# Altium integrated library Analog Devices Data Converters Analog-to-Digital Converters.IntLib: 2404 symbols (part 260 of 346)
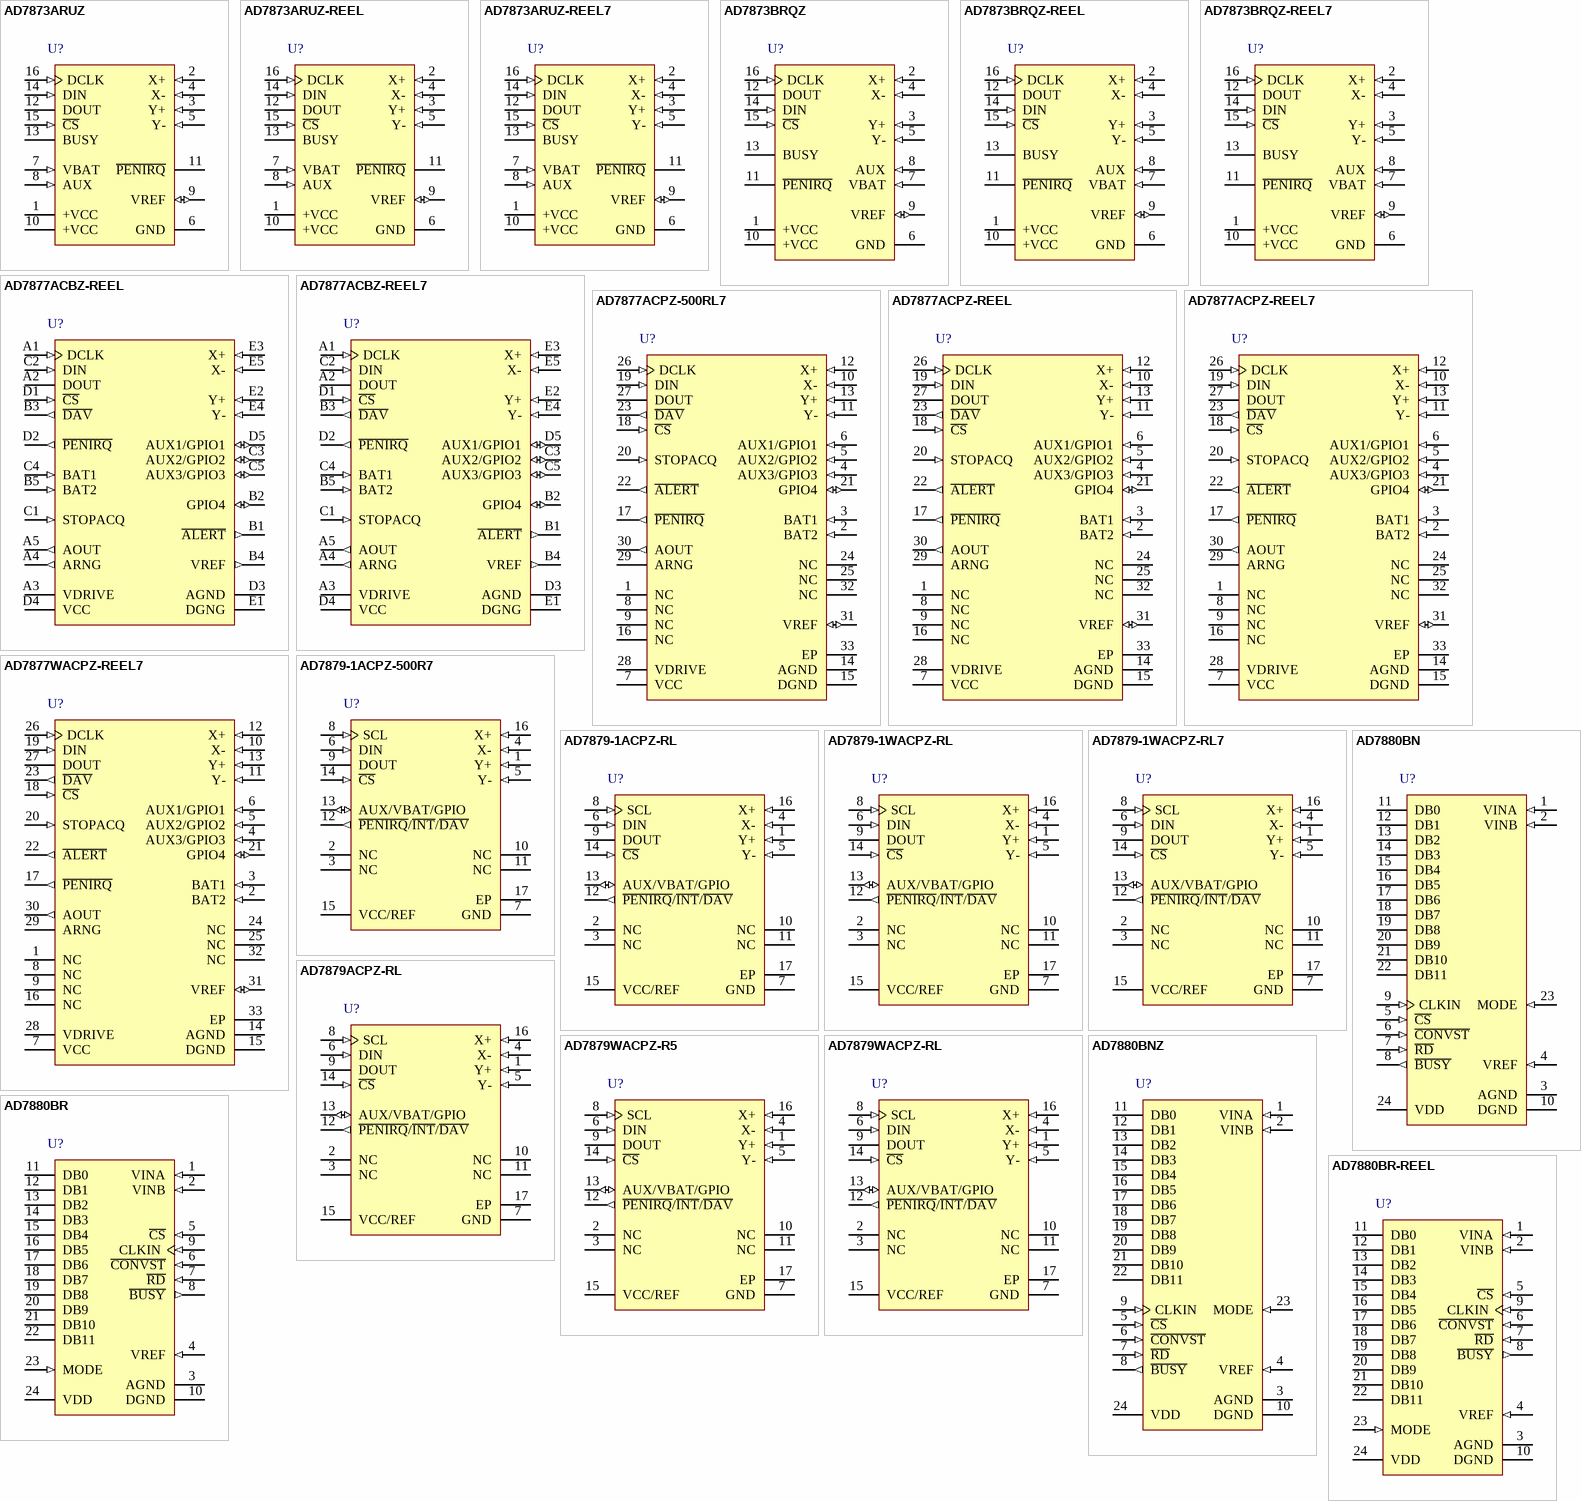
[diagram p293: symbols AD7873ARUZ to AD7880BR-REEL]

## AD7873BRQZ-REEL
designator U?
6 Channel Touch Screen Digitizer with Serial Interface, 125KSPS, -40 to +85 degC, RQ-16, Pb-Free, Reel; Generic Part Number: AD7873; Manufacturer: Analog Devices; PartNumber: AD7873BRQZ-REEL; Resolution (Bits): 12; Channels: 6; Throughput Rate (SPS): 125K; Interface: Ser; DatasheetVersion: Rev.E; PackageVersion: Aug-2005; PackageReference: RQ-16; PackageDescription: 16-Lead Shrink Small Outline Package [QSOP]; Supplier 1: Digi-Key; Supplier Part Number 1: AD7873BRQZ-REEL-ND; Supplier 2: Mouser; Supplier Part Number 2: 584-AD7873BRQZ-R; RoHS: Y; Packing: Reel; Mounting Technology: Surface Mount; Code_JEDEC: MO-137-AB; ComponentLink1Description: Manufacturer URL; ComponentLink1URL: http://www.analog.com/en/index.html; ComponentLink2Description: Datasheet; ComponentLink2URL: http://www.analog.com/static/imported-files/data_sheets/AD7873.pdf; ComponentLink3Description: Package Specification; ComponentLink3URL: http://www.analog.com/static/imported-files/packages/5595549651201762937RQ_16.pdf; ComponentLink4Description: Product URL; ComponentLink4URL: http://www.analog.com/en/analog-to-digital-converters/ad-converters/ad7873/products/product.html
footprint RQ-16_N (SOP, 16-Leads, Body 4.9x3.9mm, Pitch 0.635mm, IPC Medium Density)
footprint RQ-16_L (SOP, 16-Leads, Body 4.9x3.9mm, Pitch 0.635mm, IPC High Density)
footprint RQ-16_M (SOP, 16-Leads, Body 4.9x3.9mm, Pitch 0.635mm, IPC Low Density)
pins: 1 +VCC (power) "Power Supply Input. The +VCC range for the AD7873 is from 2.2 V to 5.25 V. Both +VCC pins should be connected directly together", 2 X+ (in) "X+ Position Input. ADC Input Channel 1.", 3 Y+ (in) "Y+ Position Input. ADC Input Channel 2.", 4 X- (in) "X- Position Input.", 5 Y- (in) "Y- Position Input. ADC Input Channel 3.", 6 GND (power) "Analog Ground. Ground reference point for all circuitry on the AD7873. All analog input signals and any external reference signals should be referred to this GND voltage.", 7 VBAT (in) "Battery Monitor Input. ADC Input Channel 4", 8 AUX (in) "Auxiliary Input. ADC Input Channel 5.", 9 VREF (io) "Reference Output for the AD7873. Alternatively, an external reference can be applied to this input.The voltage range for the external reference is 1.0 V to +VCC. For specified performance, it is 2.5 V on the AD7873. The (See Datasheet)", 10 +VCC (power) "Power Supply Input. The +VCC range for the AD7873 is from 2.2 V to 5.25 V. Both +VCC pins should be connected directly together", 11 ~{PENIRQ} (oc) "Pen Interrupt. CMOS logic open-drain output (requires 10 kO to 100 kO pull-up resistor externally).", 12 DOUT (hiz) "Data Out. Logic output. The conversion result from the AD7873 is provided on this output as a serial data stream. The bits are clocked out on the falling edge of the DCLK input. This output is high impedance when C\S\ is (See Datasheet)", 13 BUSY (hiz) "BUSY Output. Logic output. This output is high impedance when C\S\ is high", 14 DIN (in) "Data In. Logic Input. Data to be written to the AD7873 control register is provided on this input and is clocked into the register on the rising edge of DCLK (see the Control Register section).", 15 ~{CS} (in) "Chip Select Input. Active low logic input. This input provides the dual function of initiating conversions on the AD7873 and enabling the serial input/output register.", 16 DCLK (in) "External Clock Input. Logic input. DCLK provides the serial clock for accessing data from the part.This clock input is also used as the clock source for the AD7873 conversion process."

## AD7873BRQZ-REEL7
designator U?
6 Channel Touch Screen Digitizer with Serial Interface, 125KSPS, -40 to +85 degC, RQ-16, Pb-Free, Reel; Generic Part Number: AD7873; Manufacturer: Analog Devices; PartNumber: AD7873BRQZ-REEL7; Resolution (Bits): 12; Channels: 6; Throughput Rate (SPS): 125K; Interface: Ser; DatasheetVersion: Rev.E; PackageVersion: Aug-2005; PackageReference: RQ-16; PackageDescription: 16-Lead Shrink Small Outline Package [QSOP]; Supplier 1: Digi-Key; Supplier Part Number 1: AD7873BRQZ-REEL7-ND; Supplier 2: Mouser; Supplier Part Number 2: 584-AD7873BRQZ-R7; RoHS: Y; Packing: Reel; Mounting Technology: Surface Mount; Code_JEDEC: MO-137-AB; ComponentLink1Description: Manufacturer URL; ComponentLink1URL: http://www.analog.com/en/index.html; ComponentLink2Description: Datasheet; ComponentLink2URL: http://www.analog.com/static/imported-files/data_sheets/AD7873.pdf; ComponentLink3Description: Package Specification; ComponentLink3URL: http://www.analog.com/static/imported-files/packages/5595549651201762937RQ_16.pdf; ComponentLink4Description: Product URL; ComponentLink4URL: http://www.analog.com/en/analog-to-digital-converters/ad-converters/ad7873/products/product.html
footprint RQ-16_N (SOP, 16-Leads, Body 4.9x3.9mm, Pitch 0.635mm, IPC Medium Density)
footprint RQ-16_L (SOP, 16-Leads, Body 4.9x3.9mm, Pitch 0.635mm, IPC High Density)
footprint RQ-16_M (SOP, 16-Leads, Body 4.9x3.9mm, Pitch 0.635mm, IPC Low Density)
pins: 1 +VCC (power) "Power Supply Input. The +VCC range for the AD7873 is from 2.2 V to 5.25 V. Both +VCC pins should be connected directly together", 2 X+ (in) "X+ Position Input. ADC Input Channel 1.", 3 Y+ (in) "Y+ Position Input. ADC Input Channel 2.", 4 X- (in) "X- Position Input.", 5 Y- (in) "Y- Position Input. ADC Input Channel 3.", 6 GND (power) "Analog Ground. Ground reference point for all circuitry on the AD7873. All analog input signals and any external reference signals should be referred to this GND voltage.", 7 VBAT (in) "Battery Monitor Input. ADC Input Channel 4", 8 AUX (in) "Auxiliary Input. ADC Input Channel 5.", 9 VREF (io) "Reference Output for the AD7873. Alternatively, an external reference can be applied to this input.The voltage range for the external reference is 1.0 V to +VCC. For specified performance, it is 2.5 V on the AD7873. The (See Datasheet)", 10 +VCC (power) "Power Supply Input. The +VCC range for the AD7873 is from 2.2 V to 5.25 V. Both +VCC pins should be connected directly together", 11 ~{PENIRQ} (oc) "Pen Interrupt. CMOS logic open-drain output (requires 10 kO to 100 kO pull-up resistor externally).", 12 DOUT (hiz) "Data Out. Logic output. The conversion result from the AD7873 is provided on this output as a serial data stream. The bits are clocked out on the falling edge of the DCLK input. This output is high impedance when C\S\ is (See Datasheet)", 13 BUSY (hiz) "BUSY Output. Logic output. This output is high impedance when C\S\ is high", 14 DIN (in) "Data In. Logic Input. Data to be written to the AD7873 control register is provided on this input and is clocked into the register on the rising edge of DCLK (see the Control Register section).", 15 ~{CS} (in) "Chip Select Input. Active low logic input. This input provides the dual function of initiating conversions on the AD7873 and enabling the serial input/output register.", 16 DCLK (in) "External Clock Input. Logic input. DCLK provides the serial clock for accessing data from the part.This clock input is also used as the clock source for the AD7873 conversion process."

## AD7877ACBZ-REEL
designator U?
Touch Screen Controller, 125KSPS, -40 to +85 degC, CB-25, Pb-Free, Reel; Generic Part Number: AD7877; Manufacturer: Analog Devices; PartNumber: AD7877ACBZ-REEL; Resolution (Bits): 12; Channels: 9; Throughput Rate (SPS): 125K; Interface: Ser; DatasheetVersion: Rev.D; PackageVersion: 081607-A; PackageReference: CB-25; PackageDescription: 25-Ball Wafer Level Chip Scale Package [WLCSP]; Supplier 1: Digi-Key; Supplier Part Number 1: AD7877ACBZ-REEL-ND; Supplier 2: Mouser; Supplier Part Number 2: 584-AD7877ACBZ-R; RoHS: Y; Packing: Reel; Mounting Technology: Surface Mount; ComponentLink1Description: Manufacturer URL; ComponentLink1URL: http://www.analog.com/en/index.html; ComponentLink2Description: Datasheet; ComponentLink2URL: http://www.analog.com/static/imported-files/data_sheets/AD7877.pdf; ComponentLink3Description: Package Specification; ComponentLink3URL: http://www.analog.com/static/imported-files/packages/PKG_PDF/WLCSP(CB)/CB_25.pdf; ComponentLink4Description: Product URL; ComponentLink4URL: http://www.analog.com/en/analog-to-digital-converters/ad-converters/ad7877/products/product.html
footprint CB-25 (BGA, 25-Leads, Body 2.55x2.77mm, Pitch 0.5mm)
pins: A1 DCLK (in) "External Clock Input. Logic input. DCLK provides the serial clock for accessing data from the part.", A2 DOUT (hiz) "Serial Data Output. Logic output. The conversion result from the AD7877 is provided on this output as a serial data stream. The bits are clocked out on the falling edge of the DCLK input. This output is high impedance when (See Datasheet)", A3 VDRIVE (power) "Logic Power Supply Input. The voltage supplied at this pin determines the operating voltage for the serial interface of the AD7877.", A4 ARNG (out) "When the DAC is in current output mode, a resistor from ARNG to GND sets the output range.", A5 AOUT (out) "Analog Output Voltage or Current from DAC.", B1 ~{ALERT} (out) "Digital Active Low Output. Interrupt output that goes low if a GPIO data bit is set, or if the AUX1, TEMP1, BAT1,or BAT2 measurements are out of range.", B2 GPIO4 (io) "Dedicated General-Purpose Logic Input/Output Pin.", B3 ~{DAV} (out) "Data Available Output. Active low logic output. Asserts low when new data is available in the AD7877 results registers.", B4 VREF (out) "Reference Output for the AD7877. The internal 2.5 V reference is available on this pin for use external to the device. The reference output must be buffered before it is applied elsewhere in a system. To reduce system noise (See Datasheet)", B5 BAT2 (in) "Battery Monitor Input. ADC Input Channel 7.", C1 STOPACQ (in) "Stop Acquisition Pin. A signal applied to this pin can be monitored by the AD7877, so that acquisition of new data by the ADC is halted while the signal is active. Used to reduce the effect of noise from an LCD screen on the (See Datasheet)", C2 DIN (in) "SPI® Serial Data Input. Data to be written to the AD7877 registers are provided on this input and clocked into the register on the rising edge of DCLK.", C3 AUX2/GPIO2 (io) "Auxiliary Analog Input. ADC Input Channel 4. Can be reconfigured as GPIO pin.", C4 BAT1 (in) "Battery Monitor Input. ADC Input Channel 6.", C5 AUX3/GPIO3 (io) "Auxiliary Analog Input. ADC Input Channel 5. Can be reconfigured as GPIO pin.", D1 ~{CS} (in) "Chip Select Input. Active low logic input. This input provides the dual function of initiating conversions on the AD7877 and enabling the serial input/output register.", D2 ~{PENIRQ} (out) "Pen Interrupt. Digital active low output (has a 50 k ohm internal pull-up resistor).", D3 AGND (power) "Analog Ground. Ground reference point for all analog circuitry on the AD7877. All analog input signals and any external reference signal should be referred to this voltage.", D4 VCC (power) "Power Supply Input. The VCC range for the AD7877 is from 2.2 V to 5.25 V.", D5 AUX1/GPIO1 (io) "Auxiliary Analog Input. ADC Input Channel 3. Can be reconfigured as GPIO pin.", E1 DGNG (power) "Digital Ground. Ground reference for all digital circuitry on the AD7877. Refer all digital input signals to this voltage.", E2 Y+ (in) "Touch Screen Position Input. ADC Input Channel 1.", E3 X+ (in) "Touch Screen Position Input. ADC Input Channel 0.", E4 Y- (in) "Touch Screen Position Input. ADC Input Channel 2.", E5 X- (in) "Touch Screen Position Input."

## AD7877ACBZ-REEL7
designator U?
Touch Screen Controller, 125KSPS, -40 to +85 degC, CB-25, Pb-Free, Reel; Generic Part Number: AD7877; Manufacturer: Analog Devices; PartNumber: AD7877ACBZ-REEL7; Resolution (Bits): 12; Channels: 9; Throughput Rate (SPS): 125K; Interface: Ser; DatasheetVersion: Rev.D; PackageVersion: 081607-A; PackageReference: CB-25; PackageDescription: 25-Ball Wafer Level Chip Scale Package [WLCSP]; Supplier 1: Digi-Key; Supplier Part Number 1: AD7877ACBZ-REEL7TR-ND; Supplier 2: Digi-Key; Supplier Part Number 2: AD7877ACBZ-REEL7CT-ND; Supplier 3: Digi-Key; Supplier Part Number 3: AD7877ACBZ-REEL7DKR-ND; Supplier 4: Mouser; Supplier Part Number 4: 584-AD7877ACBZ-R7; RoHS: Y; Packing: Reel; Mounting Technology: Surface Mount; ComponentLink1Description: Manufacturer URL; ComponentLink1URL: http://www.analog.com/en/index.html; ComponentLink2Description: Datasheet; ComponentLink2URL: http://www.analog.com/static/imported-files/data_sheets/AD7877.pdf; ComponentLink3Description: Package Specification; ComponentLink3URL: http://www.analog.com/static/imported-files/packages/PKG_PDF/WLCSP(CB)/CB_25.pdf; ComponentLink4Description: Product URL; ComponentLink4URL: http://www.analog.com/en/analog-to-digital-converters/ad-converters/ad7877/products/product.html
footprint CB-25 (BGA, 25-Leads, Body 2.55x2.77mm, Pitch 0.5mm)
pins: A1 DCLK (in) "External Clock Input. Logic input. DCLK provides the serial clock for accessing data from the part.", A2 DOUT (hiz) "Serial Data Output. Logic output. The conversion result from the AD7877 is provided on this output as a serial data stream. The bits are clocked out on the falling edge of the DCLK input. This output is high impedance when (See Datasheet)", A3 VDRIVE (power) "Logic Power Supply Input. The voltage supplied at this pin determines the operating voltage for the serial interface of the AD7877.", A4 ARNG (out) "When the DAC is in current output mode, a resistor from ARNG to GND sets the output range.", A5 AOUT (out) "Analog Output Voltage or Current from DAC.", B1 ~{ALERT} (out) "Digital Active Low Output. Interrupt output that goes low if a GPIO data bit is set, or if the AUX1, TEMP1, BAT1,or BAT2 measurements are out of range.", B2 GPIO4 (io) "Dedicated General-Purpose Logic Input/Output Pin.", B3 ~{DAV} (out) "Data Available Output. Active low logic output. Asserts low when new data is available in the AD7877 results registers.", B4 VREF (out) "Reference Output for the AD7877. The internal 2.5 V reference is available on this pin for use external to the device. The reference output must be buffered before it is applied elsewhere in a system. To reduce system noise (See Datasheet)", B5 BAT2 (in) "Battery Monitor Input. ADC Input Channel 7.", C1 STOPACQ (in) "Stop Acquisition Pin. A signal applied to this pin can be monitored by the AD7877, so that acquisition of new data by the ADC is halted while the signal is active. Used to reduce the effect of noise from an LCD screen on the (See Datasheet)", C2 DIN (in) "SPI® Serial Data Input. Data to be written to the AD7877 registers are provided on this input and clocked into the register on the rising edge of DCLK.", C3 AUX2/GPIO2 (io) "Auxiliary Analog Input. ADC Input Channel 4. Can be reconfigured as GPIO pin.", C4 BAT1 (in) "Battery Monitor Input. ADC Input Channel 6.", C5 AUX3/GPIO3 (io) "Auxiliary Analog Input. ADC Input Channel 5. Can be reconfigured as GPIO pin.", D1 ~{CS} (in) "Chip Select Input. Active low logic input. This input provides the dual function of initiating conversions on the AD7877 and enabling the serial input/output register.", D2 ~{PENIRQ} (out) "Pen Interrupt. Digital active low output (has a 50 k ohm internal pull-up resistor).", D3 AGND (power) "Analog Ground. Ground reference point for all analog circuitry on the AD7877. All analog input signals and any external reference signal should be referred to this voltage.", D4 VCC (power) "Power Supply Input. The VCC range for the AD7877 is from 2.2 V to 5.25 V.", D5 AUX1/GPIO1 (io) "Auxiliary Analog Input. ADC Input Channel 3. Can be reconfigured as GPIO pin.", E1 DGNG (power) "Digital Ground. Ground reference for all digital circuitry on the AD7877. Refer all digital input signals to this voltage.", E2 Y+ (in) "Touch Screen Position Input. ADC Input Channel 1.", E3 X+ (in) "Touch Screen Position Input. ADC Input Channel 0.", E4 Y- (in) "Touch Screen Position Input. ADC Input Channel 2.", E5 X- (in) "Touch Screen Position Input."

## AD7877ACPZ-500RL7
designator U?
Touch Screen Controller, 125KSPS, -40 to +85 degC, CP-32-2, Pb-Free, Reel; Generic Part Number: AD7877; Manufacturer: Analog Devices; PartNumber: AD7877ACPZ-500RL7; Resolution (Bits): 12; Channels: 9; Throughput Rate (SPS): 125K; Interface: Ser; DatasheetVersion: Rev.D; PackageVersion: Jan-2005; PackageReference: CP-32-2; PackageDescription: 32-Lead Lead Frame Chip Scale Package [LFCSP_VQ] 5 x 5 mm Body, Very Thin Quad; Supplier 1: Digi-Key; Supplier Part Number 1: AD7877ACPZ-500RL7TR-ND; Supplier 2: Digi-Key; Supplier Part Number 2: AD7877ACPZ-500RL7CT-ND; Supplier 3: Digi-Key; Supplier Part Number 3: AD7877ACPZ-500RL7DKR-ND; Supplier 4: Farnell; Supplier Part Number 4: 1226200; Supplier 5: Newark; Supplier Part Number 5: 19M8860; Supplier 6: Mouser; Supplier Part Number 6: 584-AD7877ACPZ-500R7; RoHS: Y; Packing: Reel; Mounting Technology: Surface Mount; Code_JEDEC: MO-220-VHHD-2; ComponentLink1Description: Manufacturer URL; ComponentLink1URL: http://www.analog.com/en/index.html; ComponentLink2Description: Datasheet; ComponentLink2URL: http://www.analog.com/static/imported-files/data_sheets/AD7877.pdf; ComponentLink3Description: Package Specification; ComponentLink3URL: http://www.analog.com/static/imported-files/packages/414143737956480539664569CP_32_2.pdf; ComponentLink4Description: Product URL; ComponentLink4URL: http://www.analog.com/en/analog-to-digital-converters/ad-converters/ad7877/products/product.html
footprint CP-32-2_N (QFN, 32-Leads, Body 5x5mm, Pitch 0.5mm, Thermal Pad 3.1x3.1mm, IPC Medium Density)
footprint CP-32-2_L (QFN, 32-Leads, Body 5x5mm, Pitch 0.5mm, Thermal Pad 3.1x3.1mm, IPC High Density)
footprint CP-32-2_M (QFN, 32-Leads, Body 5x5mm, Pitch 0.5mm, Thermal Pad 3.1x3.1mm, IPC Low Density)
pins: 1 NC "No Connect.", 2 BAT2 (in) "Battery Monitor Input. ADC Input Channel 7.", 3 BAT1 (in) "Battery Monitor Input. ADC Input Channel 6.", 4 AUX3/GPIO3 (in) "Auxiliary Analog Input. ADC Input Channel 5. Can be reconfigured as GPIO pin.", 5 AUX2/GPIO2 (in) "Auxiliary Analog Input. ADC Input Channel 4. Can be reconfigured as GPIO pin.", 6 AUX1/GPIO1 (in) "Auxiliary Analog Input. ADC Input Channel 3. Can be reconfigured as GPIO pin.", 7 VCC (power) "Power Supply Input. The VCC range for the AD7877 is from 2.2 V to 5.25 V.", 8 NC "No Connect.", 9 NC "No Connect.", 10 X- (in) "Touch Screen Position Input.", 11 Y- (in) "Touch Screen Position Input. ADC Input Channel 2.", 12 X+ (in) "Touch Screen Position Input. ADC Input Channel 0.", 13 Y+ (in) "Touch Screen Position Input. ADC Input Channel 1.", 14 AGND (power) "Analog Ground. Ground reference point for all analog circuitry on the AD7877. All analog input signals and any external reference signal should be referred to this voltage.", 15 DGND (power) "Digital Ground. Ground reference for all digital circuitry on the AD7877. Refer all digital input signals to this voltage.", 16 NC "No Connect.", 17 ~{PENIRQ} (out) "Pen Interrupt. Digital active low output (has a 50 k ohm internal pull-up resistor).", 18 ~{CS} (in) "Chip Select Input. Active low logic input. This input provides the dual function of initiating conversions on the AD7877 and enabling the serial input/output register.", 19 DIN (in) "SPI® Serial Data Input. Data to be written to the AD7877 registers are provided on this input and clocked into the register on the rising edge of DCLK.", 20 STOPACQ (in) "Stop Acquisition Pin. A signal applied to this pin can be monitored by the AD7877, so that acquisition of new data by the ADC is halted while the signal is active. Used to reduce the effect of noise from an LCD screen on the (See Datasheet)", 21 GPIO4 (io) "Dedicated General-Purpose Logic Input/Output Pin.", 22 ~{ALERT} (out) "Digital Active Low Output. Interrupt output that goes low if a GPIO data bit is set, or if the AUX1, TEMP1, BAT1, or BAT2 measurements are out of range.", 23 ~{DAV} (out) "Data Available Output. Active low logic output. Asserts low when new data is available in the AD7877 results registers.", 24 NC "No Connect.", 25 NC "No Connect.", 26 DCLK (in) "External Clock Input. Logic input. DCLK provides the serial clock for accessing data from the part.", 27 DOUT (hiz) "Serial Data Output. Logic output. The conversion result from the AD7877 is provided on this output as a serial data stream. The bits are clocked out on the falling edge of the DCLK input. This output is high impedance when (See Datasheet)", 28 VDRIVE (power) "Logic Power Supply Input. The voltage supplied at this pin determines the operating voltage for the serial interface of the AD7877.", 29 ARNG "When the DAC is in current output mode, a resistor from ARNG to GND sets the output range.", 30 AOUT (out) "Analog Output Voltage or Current from DAC.", 31 VREF (io) "Reference Output for the AD7877. The internal 2.5 V reference is available on this pin for use external to the device. The reference output must be buffered before it is applied elsewhere in a system. To reduce system noise (See Datasheet)", 32 NC "No Connect.", 33 EP (power) "Exposed Paddle."

## AD7877ACPZ-REEL
designator U?
Touch Screen Controller, 125KSPS, -40 to +85 degC, CP-32-2, Pb-Free, Reel; Generic Part Number: AD7877; Manufacturer: Analog Devices; PartNumber: AD7877ACPZ-REEL; Resolution (Bits): 12; Channels: 9; Throughput Rate (SPS): 125K; Interface: Ser; DatasheetVersion: Rev.D; PackageVersion: Jan-2005; PackageReference: CP-32-2; PackageDescription: 32-Lead Lead Frame Chip Scale Package [LFCSP_VQ] 5 x 5 mm Body, Very Thin Quad; Supplier 1: Digi-Key; Supplier Part Number 1: AD7877ACPZ-REEL-ND; Supplier 2: Mouser; Supplier Part Number 2: 584-AD7877ACPZ-R; RoHS: Y; Packing: Reel; Mounting Technology: Surface Mount; Code_JEDEC: MO-220-VHHD-2; ComponentLink1Description: Manufacturer URL; ComponentLink1URL: http://www.analog.com/en/index.html; ComponentLink2Description: Datasheet; ComponentLink2URL: http://www.analog.com/static/imported-files/data_sheets/AD7877.pdf; ComponentLink3Description: Package Specification; ComponentLink3URL: http://www.analog.com/static/imported-files/packages/414143737956480539664569CP_32_2.pdf; ComponentLink4Description: Product URL; ComponentLink4URL: http://www.analog.com/en/analog-to-digital-converters/ad-converters/ad7877/products/product.html
footprint CP-32-2_N (QFN, 32-Leads, Body 5x5mm, Pitch 0.5mm, Thermal Pad 3.1x3.1mm, IPC Medium Density)
footprint CP-32-2_L (QFN, 32-Leads, Body 5x5mm, Pitch 0.5mm, Thermal Pad 3.1x3.1mm, IPC High Density)
footprint CP-32-2_M (QFN, 32-Leads, Body 5x5mm, Pitch 0.5mm, Thermal Pad 3.1x3.1mm, IPC Low Density)
pins: 1 NC "No Connect.", 2 BAT2 (in) "Battery Monitor Input. ADC Input Channel 7.", 3 BAT1 (in) "Battery Monitor Input. ADC Input Channel 6.", 4 AUX3/GPIO3 (in) "Auxiliary Analog Input. ADC Input Channel 5. Can be reconfigured as GPIO pin.", 5 AUX2/GPIO2 (in) "Auxiliary Analog Input. ADC Input Channel 4. Can be reconfigured as GPIO pin.", 6 AUX1/GPIO1 (in) "Auxiliary Analog Input. ADC Input Channel 3. Can be reconfigured as GPIO pin.", 7 VCC (power) "Power Supply Input. The VCC range for the AD7877 is from 2.2 V to 5.25 V.", 8 NC "No Connect.", 9 NC "No Connect.", 10 X- (in) "Touch Screen Position Input.", 11 Y- (in) "Touch Screen Position Input. ADC Input Channel 2.", 12 X+ (in) "Touch Screen Position Input. ADC Input Channel 0.", 13 Y+ (in) "Touch Screen Position Input. ADC Input Channel 1.", 14 AGND (power) "Analog Ground. Ground reference point for all analog circuitry on the AD7877. All analog input signals and any external reference signal should be referred to this voltage.", 15 DGND (power) "Digital Ground. Ground reference for all digital circuitry on the AD7877. Refer all digital input signals to this voltage.", 16 NC "No Connect.", 17 ~{PENIRQ} (out) "Pen Interrupt. Digital active low output (has a 50 k ohm internal pull-up resistor).", 18 ~{CS} (in) "Chip Select Input. Active low logic input. This input provides the dual function of initiating conversions on the AD7877 and enabling the serial input/output register.", 19 DIN (in) "SPI® Serial Data Input. Data to be written to the AD7877 registers are provided on this input and clocked into the register on the rising edge of DCLK.", 20 STOPACQ (in) "Stop Acquisition Pin. A signal applied to this pin can be monitored by the AD7877, so that acquisition of new data by the ADC is halted while the signal is active. Used to reduce the effect of noise from an LCD screen on the (See Datasheet)", 21 GPIO4 (io) "Dedicated General-Purpose Logic Input/Output Pin.", 22 ~{ALERT} (out) "Digital Active Low Output. Interrupt output that goes low if a GPIO data bit is set, or if the AUX1, TEMP1, BAT1, or BAT2 measurements are out of range.", 23 ~{DAV} (out) "Data Available Output. Active low logic output. Asserts low when new data is available in the AD7877 results registers.", 24 NC "No Connect.", 25 NC "No Connect.", 26 DCLK (in) "External Clock Input. Logic input. DCLK provides the serial clock for accessing data from the part.", 27 DOUT (hiz) "Serial Data Output. Logic output. The conversion result from the AD7877 is provided on this output as a serial data stream. The bits are clocked out on the falling edge of the DCLK input. This output is high impedance when (See Datasheet)", 28 VDRIVE (power) "Logic Power Supply Input. The voltage supplied at this pin determines the operating voltage for the serial interface of the AD7877.", 29 ARNG "When the DAC is in current output mode, a resistor from ARNG to GND sets the output range.", 30 AOUT (out) "Analog Output Voltage or Current from DAC.", 31 VREF (io) "Reference Output for the AD7877. The internal 2.5 V reference is available on this pin for use external to the device. The reference output must be buffered before it is applied elsewhere in a system. To reduce system noise (See Datasheet)", 32 NC "No Connect.", 33 EP (power) "Exposed Paddle."

## AD7877ACPZ-REEL7
designator U?
Touch Screen Controller, 125KSPS, -40 to +85 degC, CP-32-2, Pb-Free, Reel; Generic Part Number: AD7877; Manufacturer: Analog Devices; PartNumber: AD7877ACPZ-REEL7; Resolution (Bits): 12; Channels: 9; Throughput Rate (SPS): 125K; Interface: Ser; DatasheetVersion: Rev.D; PackageVersion: Jan-2005; PackageReference: CP-32-2; PackageDescription: 32-Lead Lead Frame Chip Scale Package [LFCSP_VQ] 5 x 5 mm Body, Very Thin Quad; Supplier 1: Digi-Key; Supplier Part Number 1: AD7877ACPZ-REEL7TR-ND; Supplier 2: Digi-Key; Supplier Part Number 2: AD7877ACPZ-REEL7CT-ND; Supplier 3: Digi-Key; Supplier Part Number 3: AD7877ACPZ-REEL7DKR-ND; RoHS: Y; Packing: Reel; Mounting Technology: Surface Mount; Code_JEDEC: MO-220-VHHD-2; ComponentLink1Description: Manufacturer URL; ComponentLink1URL: http://www.analog.com/en/index.html; ComponentLink2Description: Datasheet; ComponentLink2URL: http://www.analog.com/static/imported-files/data_sheets/AD7877.pdf; ComponentLink3Description: Package Specification; ComponentLink3URL: http://www.analog.com/static/imported-files/packages/414143737956480539664569CP_32_2.pdf; ComponentLink4Description: Product URL; ComponentLink4URL: http://www.analog.com/en/analog-to-digital-converters/ad-converters/ad7877/products/product.html
footprint CP-32-2_N (QFN, 32-Leads, Body 5x5mm, Pitch 0.5mm, Thermal Pad 3.1x3.1mm, IPC Medium Density)
footprint CP-32-2_L (QFN, 32-Leads, Body 5x5mm, Pitch 0.5mm, Thermal Pad 3.1x3.1mm, IPC High Density)
footprint CP-32-2_M (QFN, 32-Leads, Body 5x5mm, Pitch 0.5mm, Thermal Pad 3.1x3.1mm, IPC Low Density)
pins: 1 NC "No Connect.", 2 BAT2 (in) "Battery Monitor Input. ADC Input Channel 7.", 3 BAT1 (in) "Battery Monitor Input. ADC Input Channel 6.", 4 AUX3/GPIO3 (in) "Auxiliary Analog Input. ADC Input Channel 5. Can be reconfigured as GPIO pin.", 5 AUX2/GPIO2 (in) "Auxiliary Analog Input. ADC Input Channel 4. Can be reconfigured as GPIO pin.", 6 AUX1/GPIO1 (in) "Auxiliary Analog Input. ADC Input Channel 3. Can be reconfigured as GPIO pin.", 7 VCC (power) "Power Supply Input. The VCC range for the AD7877 is from 2.2 V to 5.25 V.", 8 NC "No Connect.", 9 NC "No Connect.", 10 X- (in) "Touch Screen Position Input.", 11 Y- (in) "Touch Screen Position Input. ADC Input Channel 2.", 12 X+ (in) "Touch Screen Position Input. ADC Input Channel 0.", 13 Y+ (in) "Touch Screen Position Input. ADC Input Channel 1.", 14 AGND (power) "Analog Ground. Ground reference point for all analog circuitry on the AD7877. All analog input signals and any external reference signal should be referred to this voltage.", 15 DGND (power) "Digital Ground. Ground reference for all digital circuitry on the AD7877. Refer all digital input signals to this voltage.", 16 NC "No Connect.", 17 ~{PENIRQ} (out) "Pen Interrupt. Digital active low output (has a 50 k ohm internal pull-up resistor).", 18 ~{CS} (in) "Chip Select Input. Active low logic input. This input provides the dual function of initiating conversions on the AD7877 and enabling the serial input/output register.", 19 DIN (in) "SPI® Serial Data Input. Data to be written to the AD7877 registers are provided on this input and clocked into the register on the rising edge of DCLK.", 20 STOPACQ (in) "Stop Acquisition Pin. A signal applied to this pin can be monitored by the AD7877, so that acquisition of new data by the ADC is halted while the signal is active. Used to reduce the effect of noise from an LCD screen on the (See Datasheet)", 21 GPIO4 (io) "Dedicated General-Purpose Logic Input/Output Pin.", 22 ~{ALERT} (out) "Digital Active Low Output. Interrupt output that goes low if a GPIO data bit is set, or if the AUX1, TEMP1, BAT1, or BAT2 measurements are out of range.", 23 ~{DAV} (out) "Data Available Output. Active low logic output. Asserts low when new data is available in the AD7877 results registers.", 24 NC "No Connect.", 25 NC "No Connect.", 26 DCLK (in) "External Clock Input. Logic input. DCLK provides the serial clock for accessing data from the part.", 27 DOUT (hiz) "Serial Data Output. Logic output. The conversion result from the AD7877 is provided on this output as a serial data stream. The bits are clocked out on the falling edge of the DCLK input. This output is high impedance when (See Datasheet)", 28 VDRIVE (power) "Logic Power Supply Input. The voltage supplied at this pin determines the operating voltage for the serial interface of the AD7877.", 29 ARNG "When the DAC is in current output mode, a resistor from ARNG to GND sets the output range.", 30 AOUT (out) "Analog Output Voltage or Current from DAC.", 31 VREF (io) "Reference Output for the AD7877. The internal 2.5 V reference is available on this pin for use external to the device. The reference output must be buffered before it is applied elsewhere in a system. To reduce system noise (See Datasheet)", 32 NC "No Connect.", 33 EP (power) "Exposed Paddle."

## AD7877WACPZ-REEL7
designator U?
Touch Screen Controller, 125KSPS, -40 to +85 degC, CP-32-2, Pb-Free, Reel; Generic Part Number: AD7877; Manufacturer: Analog Devices; PartNumber: AD7877WACPZ-REEL7; Resolution (Bits): 12; Channels: 9; Throughput Rate (SPS): 125K; Interface: Ser; DatasheetVersion: Rev.D; PackageVersion: Jan-2005; PackageReference: CP-32-2; PackageDescription: 32-Lead Lead Frame Chip Scale Package [LFCSP_VQ] 5 x 5 mm Body, Very Thin Quad; Supplier 1: Digi-Key; Supplier Part Number 1: AD7877WACPZ-REEL7TR-ND; Supplier 2: Digi-Key; Supplier Part Number 2: AD7877WACPZ-REEL7CT-ND; Supplier 3: Digi-Key; Supplier Part Number 3: AD7877WACPZ-REEL7DKR-ND; Supplier 4: Mouser; Supplier Part Number 4: 584-AD7877WACPZ-R7; RoHS: Y; Packing: Reel; Mounting Technology: Surface Mount; Code_JEDEC: MO-220-VHHD-2; ComponentLink1Description: Manufacturer URL; ComponentLink1URL: http://www.analog.com/en/index.html; ComponentLink2Description: Datasheet; ComponentLink2URL: http://www.analog.com/static/imported-files/data_sheets/AD7877.pdf; ComponentLink3Description: Package Specification; ComponentLink3URL: http://www.analog.com/static/imported-files/packages/414143737956480539664569CP_32_2.pdf; ComponentLink4Description: Product URL; ComponentLink4URL: http://www.analog.com/en/analog-to-digital-converters/ad-converters/ad7877/products/product.html
footprint CP-32-2_N (QFN, 32-Leads, Body 5x5mm, Pitch 0.5mm, Thermal Pad 3.1x3.1mm, IPC Medium Density)
footprint CP-32-2_L (QFN, 32-Leads, Body 5x5mm, Pitch 0.5mm, Thermal Pad 3.1x3.1mm, IPC High Density)
footprint CP-32-2_M (QFN, 32-Leads, Body 5x5mm, Pitch 0.5mm, Thermal Pad 3.1x3.1mm, IPC Low Density)
pins: 1 NC "No Connect.", 2 BAT2 (in) "Battery Monitor Input. ADC Input Channel 7.", 3 BAT1 (in) "Battery Monitor Input. ADC Input Channel 6.", 4 AUX3/GPIO3 (in) "Auxiliary Analog Input. ADC Input Channel 5. Can be reconfigured as GPIO pin.", 5 AUX2/GPIO2 (in) "Auxiliary Analog Input. ADC Input Channel 4. Can be reconfigured as GPIO pin.", 6 AUX1/GPIO1 (in) "Auxiliary Analog Input. ADC Input Channel 3. Can be reconfigured as GPIO pin.", 7 VCC (power) "Power Supply Input. The VCC range for the AD7877 is from 2.2 V to 5.25 V.", 8 NC "No Connect.", 9 NC "No Connect.", 10 X- (in) "Touch Screen Position Input.", 11 Y- (in) "Touch Screen Position Input. ADC Input Channel 2.", 12 X+ (in) "Touch Screen Position Input. ADC Input Channel 0.", 13 Y+ (in) "Touch Screen Position Input. ADC Input Channel 1.", 14 AGND (power) "Analog Ground. Ground reference point for all analog circuitry on the AD7877. All analog input signals and any external reference signal should be referred to this voltage.", 15 DGND (power) "Digital Ground. Ground reference for all digital circuitry on the AD7877. Refer all digital input signals to this voltage.", 16 NC "No Connect.", 17 ~{PENIRQ} (out) "Pen Interrupt. Digital active low output (has a 50 k ohm internal pull-up resistor).", 18 ~{CS} (in) "Chip Select Input. Active low logic input. This input provides the dual function of initiating conversions on the AD7877 and enabling the serial input/output register.", 19 DIN (in) "SPI® Serial Data Input. Data to be written to the AD7877 registers are provided on this input and clocked into the register on the rising edge of DCLK.", 20 STOPACQ (in) "Stop Acquisition Pin. A signal applied to this pin can be monitored by the AD7877, so that acquisition of new data by the ADC is halted while the signal is active. Used to reduce the effect of noise from an LCD screen on the (See Datasheet)", 21 GPIO4 (io) "Dedicated General-Purpose Logic Input/Output Pin.", 22 ~{ALERT} (out) "Digital Active Low Output. Interrupt output that goes low if a GPIO data bit is set, or if the AUX1, TEMP1, BAT1, or BAT2 measurements are out of range.", 23 ~{DAV} (out) "Data Available Output. Active low logic output. Asserts low when new data is available in the AD7877 results registers.", 24 NC "No Connect.", 25 NC "No Connect.", 26 DCLK (in) "External Clock Input. Logic input. DCLK provides the serial clock for accessing data from the part.", 27 DOUT (hiz) "Serial Data Output. Logic output. The conversion result from the AD7877 is provided on this output as a serial data stream. The bits are clocked out on the falling edge of the DCLK input. This output is high impedance when (See Datasheet)", 28 VDRIVE (power) "Logic Power Supply Input. The voltage supplied at this pin determines the operating voltage for the serial interface of the AD7877.", 29 ARNG "When the DAC is in current output mode, a resistor from ARNG to GND sets the output range.", 30 AOUT (out) "Analog Output Voltage or Current from DAC.", 31 VREF (io) "Reference Output for the AD7877. The internal 2.5 V reference is available on this pin for use external to the device. The reference output must be buffered before it is applied elsewhere in a system. To reduce system noise (See Datasheet)", 32 NC "No Connect.", 33 EP (power) "Exposed Paddle."

## AD7879-1ACPZ-500R7
designator U?
6 Channel 12-Bit Analog-to-Digital Converter for Touch Screens with I2C/Ser 2-Wire, Serial, SPI Interface, 105KSPS, -40 to +85 degC, CP-16-10, Pb-Free, Reel; Generic Part Number: AD7879; Manufacturer: Analog Devices; PartNumber: AD7879-1ACPZ-500R7; Resolution (Bits): 12; Channels: 6; Throughput Rate (SPS): 105K; Interface: I2C/Ser 2-Wire, Ser, SPI; DatasheetVersion: Rev.C; PackageVersion: 010606-0; PackageReference: CP-16-10; PackageDescription: 16-Lead Lead Frame Chip Scale Package [LFCSP_VQ] 4 x 4 mm Body, Very Thin Quad; Supplier 1: Digi-Key; Supplier Part Number 1: AD7879-1ACPZ-500R7TR-ND; Supplier 2: Digi-Key; Supplier Part Number 2: AD7879-1ACPZ-500R7CT-ND; Supplier 3: Digi-Key; Supplier Part Number 3: AD7879-1ACPZ-500R7DKR-ND; Supplier 4: Farnell; Supplier Part Number 4: 2112672; Supplier 5: Newark; Supplier Part Number 5: 94T9075; Supplier 6: Mouser; Supplier Part Number 6: 584-AD78791ACPZ500R7; RoHS: Y; Packing: Reel; Mounting Technology: Surface Mount; Code_JEDEC: MO-220-VGGC; ComponentLink1Description: Manufacturer URL; ComponentLink1URL: http://www.analog.com/en/index.html; ComponentLink2Description: Datasheet; ComponentLink2URL: http://www.analog.com/static/imported-files/data_sheets/AD7879_7889.pdf; ComponentLink3Description: Package Specification; ComponentLink3URL: http://www.analog.com/static/imported-files/packages/PKG_PDF/LFCSP(CP)/CP_16_10.pdf; ComponentLink4Description: Product URL; ComponentLink4URL: http://www.analog.com/en/analog-to-digital-converters/ad-converters/ad7879/products/product.html
footprint CP-16-10_N (QFN, 16-Leads, Body 4x4mm, Pitch 0.65mm, Thermal Pad 2.35x2.35mm, IPC Medium Density)
footprint CP-16-10_L (QFN, 16-Leads, Body 4x4mm, Pitch 0.65mm, Thermal Pad 2.35x2.35mm, IPC High Density)
footprint CP-16-10_M (QFN, 16-Leads, Body 4x4mm, Pitch 0.65mm, Thermal Pad 2.35x2.35mm, IPC Low Density)
pins: 1 Y+ (in) "Touch Screen Input Channel.", 2 NC "No Connect.", 3 NC "No Connect.", 4 X- (in) "Touch Screen Input Channel.", 5 Y- (in) "Touch Screen Input Channel.", 6 DIN (in) "SPI Serial Data Input to the AD7879.", 7 GND (power) "Ground. Ground reference point for all circuitry on the AD7879. All analog input signals and any external reference signal should be referred to this voltage.", 8 SCL (in) "Serial Interface Clock Input.", 9 DOUT (hiz) "SPI Serial Data Output for the AD7879.", 10 NC "No Connect.", 11 NC "No Connect.", 12 ~{PENIRQ}/~{INT}/~{DAV} (out) "Interrupt Output. This pin is asserted when the screen is touched (P\E\N\I\R\Q\), when a measurement exceeds the preprogrammed limits (I\N\T\), or when new data is available in the registers (D\A\V\). Active low, internal 50 (See Datasheet)", 13 AUX/VBAT/GPIO (io) "This pin can be programmed as an auxiliary input to the ADC (AUX), as a battery measurement input to the ADC (VBAT ), or as a general-purpose digital input/output (GPIO).", 14 ~{CS} (in) "Chip Select for the SPI Serial Interface on the AD7879. Active low.", 15 VCC/REF (power) "Power Supply Input and ADC Reference.", 16 X+ (in) "Touch Screen Input Channel.", 17 EP (power) "Exposed Pad. The exposed pad is not connected internally. For increased reliability of the solder joints and maximum thermal capability, it is recommended that the pad be soldered to the ground plane."

## AD7879-1ACPZ-RL
designator U?
6 Channel 12-Bit Analog-to-Digital Converter for Touch Screens with I2C/Ser 2-Wire, Serial, SPI Interface, 105KSPS, -40 to +85 degC, CP-16-10, Pb-Free, Reel; Generic Part Number: AD7879; Manufacturer: Analog Devices; PartNumber: AD7879-1ACPZ-RL; Resolution (Bits): 12; Channels: 6; Throughput Rate (SPS): 105K; Interface: I2C/Ser 2-Wire, Ser, SPI; DatasheetVersion: Rev.C; PackageVersion: 010606-0; PackageReference: CP-16-10; PackageDescription: 16-Lead Lead Frame Chip Scale Package [LFCSP_VQ] 4 x 4 mm Body, Very Thin Quad; Supplier 1: Digi-Key; Supplier Part Number 1: AD7879-1ACPZ-RL-ND; Supplier 2: Newark; Supplier Part Number 2: 34P3198; Supplier 3: Mouser; Supplier Part Number 3: 584-AD7879-1ACPZ-R; RoHS: Y; Packing: Reel; Mounting Technology: Surface Mount; Code_JEDEC: MO-220-VGGC; ComponentLink1Description: Manufacturer URL; ComponentLink1URL: http://www.analog.com/en/index.html; ComponentLink2Description: Datasheet; ComponentLink2URL: http://www.analog.com/static/imported-files/data_sheets/AD7879_7889.pdf; ComponentLink3Description: Package Specification; ComponentLink3URL: http://www.analog.com/static/imported-files/packages/PKG_PDF/LFCSP(CP)/CP_16_10.pdf; ComponentLink4Description: Product URL; ComponentLink4URL: http://www.analog.com/en/analog-to-digital-converters/ad-converters/ad7879/products/product.html
footprint CP-16-10_N (QFN, 16-Leads, Body 4x4mm, Pitch 0.65mm, Thermal Pad 2.35x2.35mm, IPC Medium Density)
footprint CP-16-10_L (QFN, 16-Leads, Body 4x4mm, Pitch 0.65mm, Thermal Pad 2.35x2.35mm, IPC High Density)
footprint CP-16-10_M (QFN, 16-Leads, Body 4x4mm, Pitch 0.65mm, Thermal Pad 2.35x2.35mm, IPC Low Density)
pins: 1 Y+ (in) "Touch Screen Input Channel.", 2 NC "No Connect.", 3 NC "No Connect.", 4 X- (in) "Touch Screen Input Channel.", 5 Y- (in) "Touch Screen Input Channel.", 6 DIN (in) "SPI Serial Data Input to the AD7879.", 7 GND (power) "Ground. Ground reference point for all circuitry on the AD7879. All analog input signals and any external reference signal should be referred to this voltage.", 8 SCL (in) "Serial Interface Clock Input.", 9 DOUT (hiz) "SPI Serial Data Output for the AD7879.", 10 NC "No Connect.", 11 NC "No Connect.", 12 ~{PENIRQ}/~{INT}/~{DAV} (out) "Interrupt Output. This pin is asserted when the screen is touched (P\E\N\I\R\Q\), when a measurement exceeds the preprogrammed limits (I\N\T\), or when new data is available in the registers (D\A\V\). Active low, internal 50 (See Datasheet)", 13 AUX/VBAT/GPIO (io) "This pin can be programmed as an auxiliary input to the ADC (AUX), as a battery measurement input to the ADC (VBAT ), or as a general-purpose digital input/output (GPIO).", 14 ~{CS} (in) "Chip Select for the SPI Serial Interface on the AD7879. Active low.", 15 VCC/REF (power) "Power Supply Input and ADC Reference.", 16 X+ (in) "Touch Screen Input Channel.", 17 EP (power) "Exposed Pad. The exposed pad is not connected internally. For increased reliability of the solder joints and maximum thermal capability, it is recommended that the pad be soldered to the ground plane."

## AD7879-1WACPZ-RL
designator U?
6 Channel 12-Bit Analog-to-Digital Converter for Touch Screens with I2C/Ser 2-Wire, Serial, SPI Interface, 105KSPS, -40 to +85 degC, CP-16-10, Pb-Free, Reel; Generic Part Number: AD7879; Manufacturer: Analog Devices; PartNumber: AD7879-1WACPZ-RL; Resolution (Bits): 12; Channels: 6; Throughput Rate (SPS): 105K; Interface: I2C/Ser 2-Wire, Ser, SPI; DatasheetVersion: Rev.C; PackageVersion: 010606-0; PackageReference: CP-16-10; PackageDescription: 16-Lead Lead Frame Chip Scale Package [LFCSP_VQ] 4 x 4 mm Body, Very Thin Quad; Supplier 1: Digi-Key; Supplier Part Number 1: AD7879-1WACPZ-RL-ND; Supplier 2: Mouser; Supplier Part Number 2: 584-AD7879-1WACPZ-R; RoHS: Y; Packing: Reel; Mounting Technology: Surface Mount; Code_JEDEC: MO-220-VGGC; ComponentLink1Description: Manufacturer URL; ComponentLink1URL: http://www.analog.com/en/index.html; ComponentLink2Description: Datasheet; ComponentLink2URL: http://www.analog.com/static/imported-files/data_sheets/AD7879_7889.pdf; ComponentLink3Description: Package Specification; ComponentLink3URL: http://www.analog.com/static/imported-files/packages/PKG_PDF/LFCSP(CP)/CP_16_10.pdf; ComponentLink4Description: Product URL; ComponentLink4URL: http://www.analog.com/en/analog-to-digital-converters/ad-converters/ad7879/products/product.html
footprint CP-16-10_N (QFN, 16-Leads, Body 4x4mm, Pitch 0.65mm, Thermal Pad 2.35x2.35mm, IPC Medium Density)
footprint CP-16-10_L (QFN, 16-Leads, Body 4x4mm, Pitch 0.65mm, Thermal Pad 2.35x2.35mm, IPC High Density)
footprint CP-16-10_M (QFN, 16-Leads, Body 4x4mm, Pitch 0.65mm, Thermal Pad 2.35x2.35mm, IPC Low Density)
pins: 1 Y+ (in) "Touch Screen Input Channel.", 2 NC "No Connect.", 3 NC "No Connect.", 4 X- (in) "Touch Screen Input Channel.", 5 Y- (in) "Touch Screen Input Channel.", 6 DIN (in) "SPI Serial Data Input to the AD7879.", 7 GND (power) "Ground. Ground reference point for all circuitry on the AD7879. All analog input signals and any external reference signal should be referred to this voltage.", 8 SCL (in) "Serial Interface Clock Input.", 9 DOUT (hiz) "SPI Serial Data Output for the AD7879.", 10 NC "No Connect.", 11 NC "No Connect.", 12 ~{PENIRQ}/~{INT}/~{DAV} (out) "Interrupt Output. This pin is asserted when the screen is touched (P\E\N\I\R\Q\), when a measurement exceeds the preprogrammed limits (I\N\T\), or when new data is available in the registers (D\A\V\). Active low, internal 50 (See Datasheet)", 13 AUX/VBAT/GPIO (io) "This pin can be programmed as an auxiliary input to the ADC (AUX), as a battery measurement input to the ADC (VBAT ), or as a general-purpose digital input/output (GPIO).", 14 ~{CS} (in) "Chip Select for the SPI Serial Interface on the AD7879. Active low.", 15 VCC/REF (power) "Power Supply Input and ADC Reference.", 16 X+ (in) "Touch Screen Input Channel.", 17 EP (power) "Exposed Pad. The exposed pad is not connected internally. For increased reliability of the solder joints and maximum thermal capability, it is recommended that the pad be soldered to the ground plane."

## AD7879-1WACPZ-RL7
designator U?
6 Channel 12-Bit Analog-to-Digital Converter for Touch Screens with I2C/Ser 2-Wire, Serial, SPI Interface, 105KSPS, -40 to +85 degC, CP-16-10, Pb-Free, Reel; Generic Part Number: AD7879; Manufacturer: Analog Devices; PartNumber: AD7879-1WACPZ-RL7; Resolution (Bits): 12; Channels: 6; Throughput Rate (SPS): 105K; Interface: I2C/Ser 2-Wire, Ser, SPI; DatasheetVersion: Rev.C; PackageVersion: 010606-0; PackageReference: CP-16-10; PackageDescription: 16-Lead Lead Frame Chip Scale Package [LFCSP_VQ] 4 x 4 mm Body, Very Thin Quad; Supplier 1: Digi-Key; Supplier Part Number 1: AD7879-1WACPZ-RL7TR-ND; Supplier 2: Digi-Key; Supplier Part Number 2: AD7879-1WACPZ-RL7CT-ND; Supplier 3: Digi-Key; Supplier Part Number 3: AD7879-1WACPZ-RL7DKR-ND; Supplier 4: Mouser; Supplier Part Number 4: 584-AD7879-1WACPZ-R7; RoHS: Y; Packing: Reel; Mounting Technology: Surface Mount; Code_JEDEC: MO-220-VGGC; ComponentLink1Description: Manufacturer URL; ComponentLink1URL: http://www.analog.com/en/index.html; ComponentLink2Description: Datasheet; ComponentLink2URL: http://www.analog.com/static/imported-files/data_sheets/AD7879_7889.pdf; ComponentLink3Description: Package Specification; ComponentLink3URL: http://www.analog.com/static/imported-files/packages/PKG_PDF/LFCSP(CP)/CP_16_10.pdf; ComponentLink4Description: Product URL; ComponentLink4URL: http://www.analog.com/en/analog-to-digital-converters/ad-converters/ad7879/products/product.html
footprint CP-16-10_N (QFN, 16-Leads, Body 4x4mm, Pitch 0.65mm, Thermal Pad 2.35x2.35mm, IPC Medium Density)
footprint CP-16-10_L (QFN, 16-Leads, Body 4x4mm, Pitch 0.65mm, Thermal Pad 2.35x2.35mm, IPC High Density)
footprint CP-16-10_M (QFN, 16-Leads, Body 4x4mm, Pitch 0.65mm, Thermal Pad 2.35x2.35mm, IPC Low Density)
pins: 1 Y+ (in) "Touch Screen Input Channel.", 2 NC "No Connect.", 3 NC "No Connect.", 4 X- (in) "Touch Screen Input Channel.", 5 Y- (in) "Touch Screen Input Channel.", 6 DIN (in) "SPI Serial Data Input to the AD7879.", 7 GND (power) "Ground. Ground reference point for all circuitry on the AD7879. All analog input signals and any external reference signal should be referred to this voltage.", 8 SCL (in) "Serial Interface Clock Input.", 9 DOUT (hiz) "SPI Serial Data Output for the AD7879.", 10 NC "No Connect.", 11 NC "No Connect.", 12 ~{PENIRQ}/~{INT}/~{DAV} (out) "Interrupt Output. This pin is asserted when the screen is touched (P\E\N\I\R\Q\), when a measurement exceeds the preprogrammed limits (I\N\T\), or when new data is available in the registers (D\A\V\). Active low, internal 50 (See Datasheet)", 13 AUX/VBAT/GPIO (io) "This pin can be programmed as an auxiliary input to the ADC (AUX), as a battery measurement input to the ADC (VBAT ), or as a general-purpose digital input/output (GPIO).", 14 ~{CS} (in) "Chip Select for the SPI Serial Interface on the AD7879. Active low.", 15 VCC/REF (power) "Power Supply Input and ADC Reference.", 16 X+ (in) "Touch Screen Input Channel.", 17 EP (power) "Exposed Pad. The exposed pad is not connected internally. For increased reliability of the solder joints and maximum thermal capability, it is recommended that the pad be soldered to the ground plane."